# Altium footprint library SNES TST1.PcbLib: 28 footprints (part 2 of 2)
Each footprint in its own frame and in the unit in brackets; x right, y up, seen from the top. Pads: shape width x height; smd on the part's side, far side on the other; paste and mask are expansions set on the pad; w line width, h text height; cw(c..) or ccw(c..) is an arc to the next point about the centre after c.
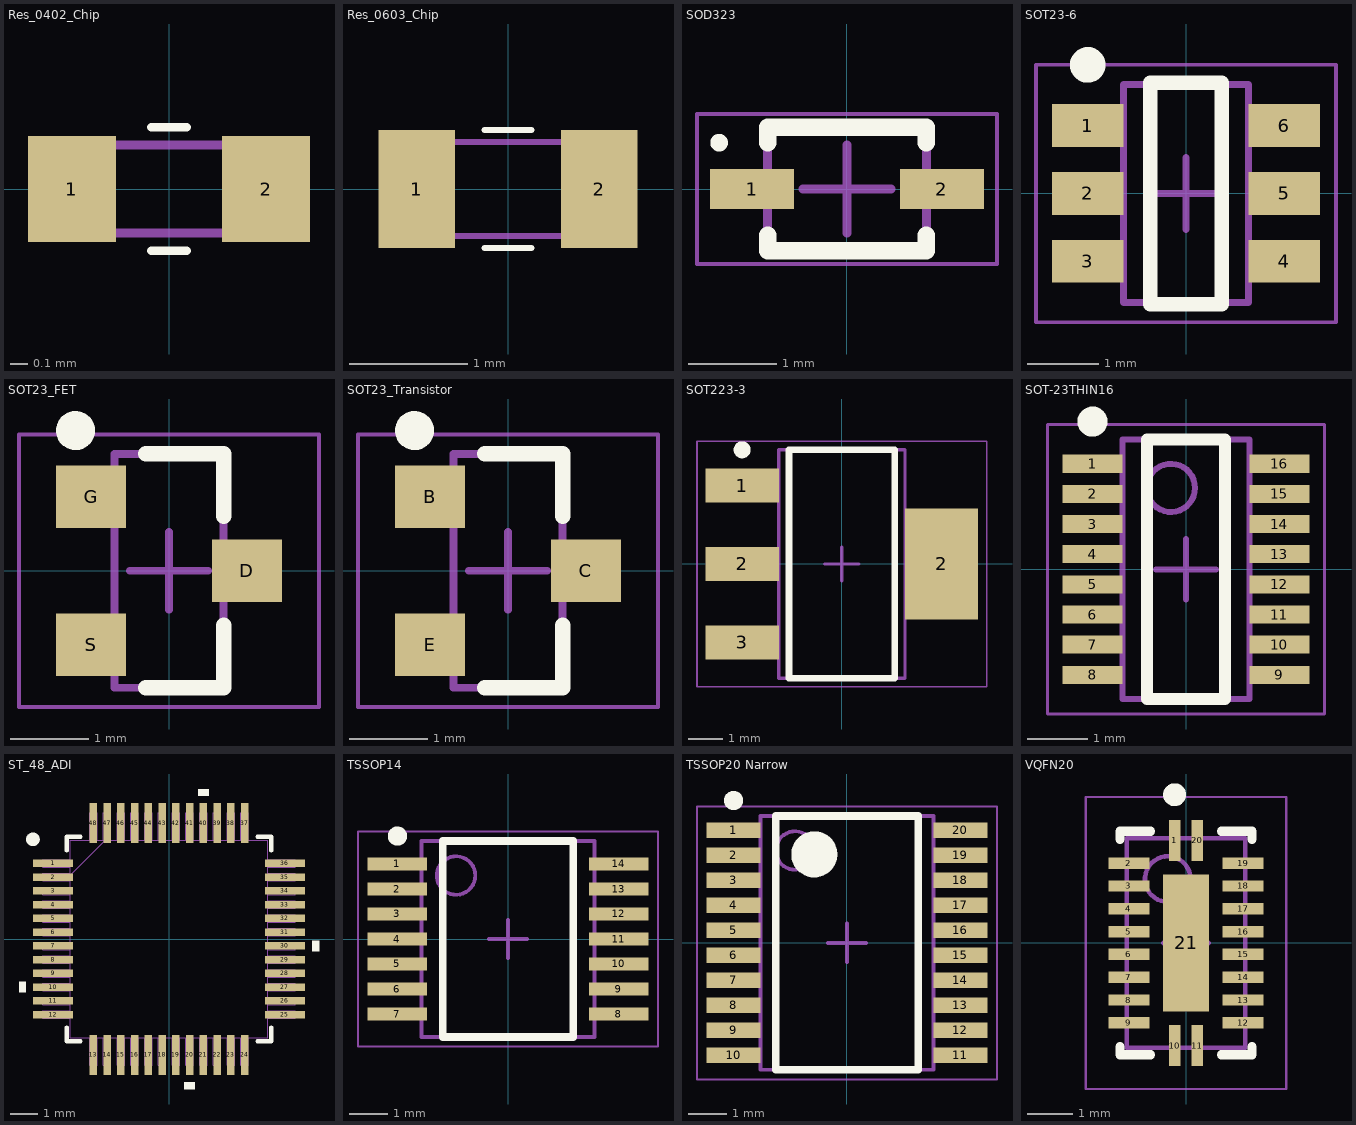
[diagram p1: the footprints below, top view; thin cyan lines are the x and y axes]

## Res_0402_Chip [mm]
pads (2):
  rect 0.5x0.6 smd: 1(-0.55,0) 2(0.55,0)
Top Overlay:
  lines w0.05: -0.1,-0.35 0.1,-0.35 ; -0.1,0.35 0.1,0.35
Top Designator:
  text ".Designator" at 2.999,0.2 h0.6
Mechanical 15:
  lines w0.05: -0.5,-0.25 0.5,-0.25 0.5,0.25 -0.5,0.25 -0.5,-0.25
3D body "RESC1005X04N.step": height 0.35, standoff 0, extent -0.55,-0.3 0.55,0.3

## Res_0603_Chip [mm]
pads (2):
  rect 0.65x1 smd: 1(-0.775,0) 2(0.775,0)
Top Overlay:
  lines w0.05: -0.2,-0.5 0.2,-0.5 ; -0.2,0.5 0.2,0.5
Top Designator:
  text ".Designator" at -2.999,-0.2 h0.6
Mechanical 15:
  lines w0.05: -0.8,-0.4 0.8,-0.4 0.8,0.4 -0.8,0.4 -0.8,-0.4
3D body "RESC1608X05N.step": height 0.5, standoff 0, extent -0.8,-0.475 0.8,0.475

## SOD323 [mm]
pads (2):
  rect 0.95x0.45 smd: 1(-1.075,0) 2(1.075,0)
Top Overlay:
  circle w0.1: c-1.45,0.525 r0.05
  lines w0.2: -0.9,-0.525 -0.9,-0.7 0.9,-0.7 0.9,-0.525 ; -0.9,0.525 -0.9,0.7 0.9,0.7 0.9,0.525
Top Designator:
  text ".Designator" at 2.999,0.2 h0.6
Mechanical 13:
  lines w0.1: -0.9,-0.675 0.9,-0.675 0.9,0.675 -0.9,0.675 -0.9,-0.675
Mechanical 15:
  lines w0.05: -1.7,-0.85 1.7,-0.85 1.7,0.85 -1.7,0.85 -1.7,-0.85
  lines w0.1: -0.5,0 0.5,0 ; 0,-0.5 0,0.5
3D body "SOD323.step": height 1, standoff 0, extent -1.25,-0.675 1.25,0.675

## SOT23-6 [mm]
pads (6):
  rect 1x0.6 smd: 1(-1.375,0.95) 2(-1.375,0) 3(-1.375,-0.95) 4(1.375,-0.95) 5(1.375,0) 6(1.375,0.95)
Top Overlay:
  circle w0.25: c-1.375,1.8 r0.125
  lines w0.2: -0.5,-1.55 -0.5,1.55 0.5,1.55 0.5,-1.55 -0.5,-1.55
Top Designator:
  text ".Designator" at 2.999,0.312 h0.6
Mechanical 13:
  lines w0.1: -0.875,-1.525 0.875,-1.525 0.875,1.525 -0.875,1.525 -0.875,-1.525
Mechanical 15:
  lines w0.05: -2.1,-1.8 2.1,-1.8 2.1,1.8 -2.1,1.8 -2.1,-1.8
  lines w0.1: -0.5,0 0.5,0 ; 0,-0.5 0,0.5
3D body "SOT95P245X145-6N.step": height 1.45, standoff 0, extent -1.3,-1.4 1.3,1.4

## SOT23_FET [mm]
pads (3):
  rect 0.9x0.8 smd: D(1,0) G(-1,0.95) S(-1,-0.95)
Top Overlay:
  circle w0.25: c-1.2,1.8 r0.125
  lines w0.2: -0.3,-1.5 0.7,-1.5 0.7,-0.7 ; -0.3,1.5 0.7,1.5 0.7,0.7
Top Designator:
  text ".Designator" at 2.999,0.337 h0.6
Mechanical 13:
  lines w0.1: -0.7,-1.5 0.7,-1.5 0.7,1.5 -0.7,1.5 -0.7,-1.5
Mechanical 15:
  lines w0.05: -1.925,-1.75 1.925,-1.75 1.925,1.75 -1.925,1.75 -1.925,-1.75
  lines w0.1: -0.5,0 0.5,0 ; 0,-0.5 0,0.5
3D body "SOT23-312212.step": height 1.1, standoff 0, extent -1.3,-1.5 1.3,1.5

## SOT23_Transistor [mm]
pads (3):
  rect 0.9x0.8 smd: B(-1,0.95) C(1,0) E(-1,-0.95)
Top Overlay:
  circle w0.25: c-1.2,1.8 r0.125
  lines w0.2: -0.3,-1.5 0.7,-1.5 0.7,-0.7 ; -0.3,1.5 0.7,1.5 0.7,0.7
Top Designator:
  text ".Designator" at -2.999,-0.062 h0.6
Mechanical 13:
  lines w0.1: -0.7,-1.5 -0.7,1.5 0.7,1.5 0.7,-1.5 -0.7,-1.5
Mechanical 15:
  lines w0.05: -1.925,-1.75 -1.925,1.75 1.925,1.75 1.925,-1.75 -1.925,-1.75
  lines w0.1: -0.5,0 0.5,0 ; 0,-0.5 0,0.5
3D body "SOT23-312212.step": height 1.1, standoff 0, extent -1.3,-1.5 1.3,1.5

## SOT223-3 [mm]
pads (4):
  rect 2.15x1 smd: 1(-2.925,2.3) 2(-2.925,0) 3(-2.925,-2.3)
  rect 2.15x3.25 smd: 2(2.925,0)
Top Overlay:
  circle w0.25: c-2.925,3.35 r0.125
  lines w0.2: -1.55,-3.35 -1.55,3.35 1.55,3.35 1.55,-3.35 -1.55,-3.35
Top Designator:
  text ".Designator" at -2.999,-0.2 h0.6
Mechanical 13:
  lines w0.1: -1.85,-3.35 1.85,-3.35 1.85,3.35 -1.85,3.35 -1.85,-3.35
Mechanical 15:
  lines w0.05: -4.25,-3.6 4.25,-3.6 4.25,3.6 -4.25,3.6 -4.25,-3.6
  lines w0.1: -0.5,0 0.5,0 ; 0,-0.5 0,0.5
3D body "SOT223-3.step": height 1.8, standoff 0, extent -3.5,-3.35 3.5,3.35

## SOT-23THIN16 [mm]
pads (16):
  rect 1x0.3 smd: 1(-1.55,1.75) 2(-1.55,1.25) 3(-1.55,0.75) 4(-1.55,0.25) 5(-1.55,-0.25) 6(-1.55,-0.75) 7(-1.55,-1.25) 8(-1.55,-1.75) 9(1.55,-1.75) 10(1.55,-1.25) 11(1.55,-0.75) 12(1.55,-0.25) 13(1.55,0.25) 14(1.55,0.75) 15(1.55,1.25) 16(1.55,1.75)
Top Overlay:
  circle w0.25: c-1.55,2.45 r0.125
  lines w0.2: -0.65,-2.15 -0.65,2.15 0.65,2.15 0.65,-2.15 -0.65,-2.15
Top Designator:
  text ".Designator" at -2.999,-0.062 h0.6
Mechanical 13:
  circle w0.1: c-0.25,1.35 r0.4
  lines w0.1: -1.05,-2.15 -1.05,2.15 1.05,2.15 1.05,-2.15 -1.05,-2.15
Mechanical 15:
  lines w0.05: -2.3,-2.4 -2.3,2.4 2.3,2.4 2.3,-2.4 -2.3,-2.4
  lines w0.1: -0.5,0 0.5,0 ; 0,-0.5 0,0.5
3D body "SOT-23THIN16.step": height 1.1, standoff 0, extent -1.63,-2.15 1.63,2.15

## ST_48_ADI [mil]
pads (48):
  rect 57.56x11 smd: 1(-166,108.27) 2(-166,88.58) 3(-166,68.9) 4(-166,49.21) 5(-166,29.53) 6(-166,9.84) 7(-166,-9.84) 8(-166,-29.53) 9(-166,-49.21) 10(-166,-68.9) 11(-166,-88.58) 12(-166,-108.27) 25(166,-108.27) 26(166,-88.58) 27(166,-68.9) 28(166,-49.21) 29(166,-29.53) 30(166,-9.84) 31(166,9.84) 32(166,29.53) 33(166,49.21) 34(166,68.9) 35(166,88.58) 36(166,108.27)
  rect 11x57.56 smd: 13(-108.27,-166) 14(-88.58,-166) 15(-68.9,-166) 16(-49.21,-166) 17(-29.53,-166) 18(-9.84,-166) 19(9.84,-166) 20(29.53,-166) 21(49.21,-166) 22(68.9,-166) 23(88.58,-166) 24(108.27,-166) 37(108.27,166) 38(88.58,166) 39(68.9,166) 40(49.21,166) 41(29.53,166) 42(9.84,166) 43(-9.84,166) 44(-29.53,166) 45(-49.21,166) 46(-68.9,166) 47(-88.58,166) 48(-108.27,166)
Top Overlay:
  circle w9.84: c-194.88,142.72 r4.92
  region: -204.78,-61.4 -214.78,-61.4 -214.78,-76.4 -204.78,-76.4
  region: 37.03,-204.78 22.03,-204.78 22.03,-214.78 37.03,-214.78
  region: 204.78,-2.34 214.78,-2.34 214.78,-17.34 204.78,-17.34
  region: 56.71,204.78 41.71,204.78 41.71,214.78 56.71,214.78
  lines w6: -146.5,-126.87 -146.5,-146.5 -126.87,-146.5 ; -146.5,126.87 -146.5,146.5 -126.87,146.5 ; 126.87,-146.5 146.5,-146.5 146.5,-126.87 ; 126.87,146.5 146.5,146.5 146.5,126.87
Top Designator:
  text ".Designator" at 118.07,7.87 h23.62
Mechanical 13:
  drawing of 197 lines, arcs and shapes, not listed
  text "*" at -139,93.11 h35.43
3D body: height 10, standoff 0, extent 0,0 10,10
3D body "ST_48_ADI.step": height 63.11, standoff 0, extent -180.99,-180.99 180.99,180.98

## TSSOP14 [mm]
pads (14):
  rect 1.55x0.35 smd: 1(-2.875,1.95) 2(-2.875,1.3) 3(-2.875,0.65) 4(-2.875,0) 5(-2.875,-0.65) 6(-2.875,-1.3) 7(-2.875,-1.95) 8(2.875,-1.95) 9(2.875,-1.3) 10(2.875,-0.65) 11(2.875,0) 12(2.875,0.65) 13(2.875,1.3) 14(2.875,1.95)
Top Overlay:
  circle w0.25: c-2.875,2.675 r0.125
  lines w0.2: -1.7,-2.55 -1.7,2.55 1.7,2.55 1.7,-2.55 -1.7,-2.55
Top Designator:
  text ".Designator" at 2.999,0.25 h0.6
Mechanical 13:
  circle w0.1: c-1.35,1.65 r0.5
  lines w0.1: -2.25,-2.55 -2.25,2.55 2.25,2.55 2.25,-2.55 -2.25,-2.55
Mechanical 15:
  lines w0.05: -3.9,-2.8 -3.9,2.8 3.9,2.8 3.9,-2.8 -3.9,-2.8
  lines w0.1: -0.5,0 0.5,0 ; 0,-0.5 0,0.5
3D body "SOP127P600-8N.step": height 1.2, standoff 0, extent -3.2,-2.55 3.2,2.55

## TSSOP20 Narrow [mm]
pads (20):
  rect 1.4x0.4 smd: 1(-2.95,2.925) 2(-2.95,2.275) 3(-2.95,1.625) 4(-2.95,0.975) 5(-2.95,0.325) 6(-2.95,-0.325) 7(-2.95,-0.975) 8(-2.95,-1.625) 9(-2.95,-2.275) 10(-2.95,-2.925) 11(2.95,-2.925) 12(2.95,-2.275) 13(2.95,-1.625) 14(2.95,-0.975) 15(2.95,-0.325) 16(2.95,0.325) 17(2.95,0.975) 18(2.95,1.625) 19(2.95,2.275) 20(2.95,2.925)
Top Overlay:
  circle w0.6: c-0.85,2.3 r0.3
  circle w0.25: c-2.95,3.7 r0.125
  lines w0.2: -1.85,-3.3 1.85,-3.3 1.85,3.3 -1.85,3.3 -1.85,-3.3
Top Designator:
  text ".Designator" at 2.999,0.387 h0.6
Mechanical 13:
  circle w0.1: c-1.35,2.4 r0.5
  lines w0.1: -2.25,-3.3 2.25,-3.3 2.25,3.3 -2.25,3.3 -2.25,-3.3
Mechanical 15:
  lines w0.05: -3.9,-3.55 3.9,-3.55 3.9,3.55 -3.9,3.55 -3.9,-3.55
  lines w0.1: -0.5,0 0.5,0 ; 0,-0.5 0,0.5
3D body "TSSOP20 Narrow.step": height 1.2, standoff 0, extent -3.2,-3.3 3.2,3.3

## VQFN20 [mm]
pads (21):
  rect 0.25x0.9 smd: 1(-0.25,2.25) 10(-0.25,-2.25) 11(0.25,-2.25) 20(0.25,2.25)
  rect 0.9x0.25 smd: 2(-1.25,1.75) 3(-1.25,1.25) 4(-1.25,0.75) 5(-1.25,0.25) 6(-1.25,-0.25) 7(-1.25,-0.75) 8(-1.25,-1.25) 9(-1.25,-1.75) 12(1.25,-1.75) 13(1.25,-1.25) 14(1.25,-0.75) 15(1.25,-0.25) 16(1.25,0.25) 17(1.25,0.75) 18(1.25,1.25) 19(1.25,1.75)
  rect 1x3 smd: 21(0,0)
Top Overlay:
  circle w0.25: c-0.25,3.25 r0.125
  lines w0.2: -1.45,-2.275 -1.45,-2.45 -0.775,-2.45 ; -1.45,2.275 -1.45,2.45 -0.775,2.45 ; 0.775,-2.45 1.45,-2.45 1.45,-2.275 ; 0.775,2.45 1.45,2.45 1.45,2.275
Top Designator:
  text ".Designator" at 2.999,0.337 h0.6
Mechanical 13:
  circle w0.1: c-0.4,1.4 r0.5
  lines w0.1: -1.3,-2.3 -1.3,2.3 1.3,2.3 1.3,-2.3 -1.3,-2.3
Mechanical 15:
  lines w0.05: -2.2,-3.2 -2.2,3.2 2.2,3.2 2.2,-3.2 -2.2,-3.2
  lines w0.1: -0.5,0 0.5,0 ; 0,-0.5 0,0.5
3D body "VQFN20.step": height 1, standoff 0, extent -1.301,-2.301 1.301,2.301